# EAGLE library part ARDUINO-NANO (library Open-Pull-Lib)
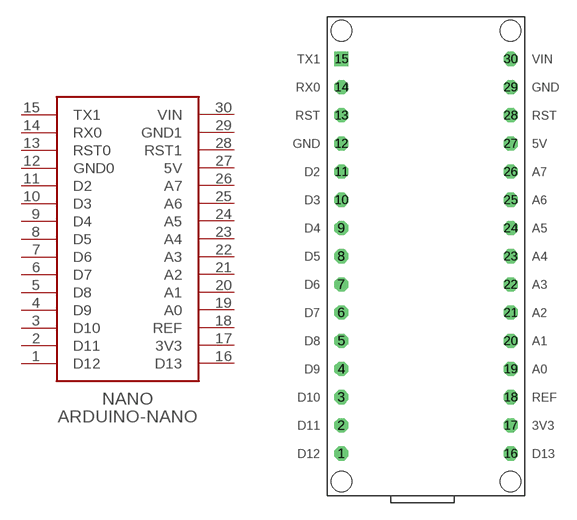
[diagram p0: symbol with the pads of ARDUINO-NANO; footprint ARDUINO-NANO]

Designator prefix NANO

## ARDUINO-NANO  [ARDUINO-NANO]
1  D12
2  D11
3  D10
4  D9
5  D8
6  D7
7  D6
8  D5
9  D4
10  D3
11  D2
12  GND0  sup
13  RST0
14  RX0
15  TX1
16  D13
17  3V3  pwr
18  REF
19  A0
20  A1
21  A2
22  A3
23  A4
24  A5
25  A6
26  A7
27  5V  pwr
28  RST1
29  GND1  sup
30  VIN  pwr

## Footprint ARDUINO-NANO (pad centres in mm)
drill 0.635 pad 1.27 octagon: 1 0,2.54; 2 0,5.08; 3 0,7.62; 4 0,10.16; 5 0,12.7; 6 0,15.24; 7 0,17.78; 8 0,20.32; 9 0,22.86; 10 0,25.4; 11 0,27.94; 12 0,30.48; 13 0,33.02; 14 0,35.56; 16 15.24,2.54; 17 15.24,5.08; 18 15.24,7.62; 19 15.24,10.16; 20 15.24,12.7; 21 15.24,15.24; 22 15.24,17.78; 23 15.24,20.32; 24 15.24,22.86; 25 15.24,25.4; 26 15.24,27.94; 27 15.24,30.48; 28 15.24,33.02; 29 15.24,35.56; 30 15.24,38.1
drill 0.635 pad 1.27 square: 15 0,38.1
hole 1.85 at 0,0
hole 1.85 at 15.24,0
hole 1.85 at 0,40.64
hole 1.85 at 15.24,40.64